# Altium schematic symbol library OPA4191IRUMR.Schlib: 1 symbol
Pins are listed as number, name and electrical type; pins without a type are passive.

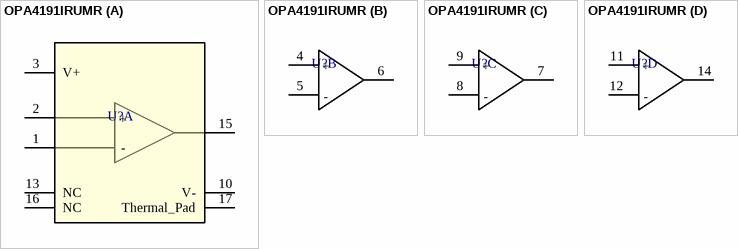
[diagram p0: symbol OPA4191IRUMR]

## OPA4191IRUMR
designator U?
Rail to Rail OP-AMP
part A pins: 1 -IN_A (hiz), 2 +IN_A (hiz), 3 V+ (power), 10 V- (power), 13 NC, 15 OUT_A, 16 NC, 17 Thermal_Pad (power)
part B pins: 4 +IN_B (hiz), 5 -IN_B (hiz), 6 OUT_B
part C pins: 7 OUT_C, 8 -IN_C (hiz), 9 +IN_C (hiz)
part D pins: 11 +IN_D (hiz), 12 -IN_D (hiz), 14 OUT_D
part A text: +; -
part B text: +; -
part C text: +; -
part D text: +; -